# Altium schematic symbol library misc.SchLib: 5 symbols
Pins are listed as number, name and electrical type; pins without a type are passive.

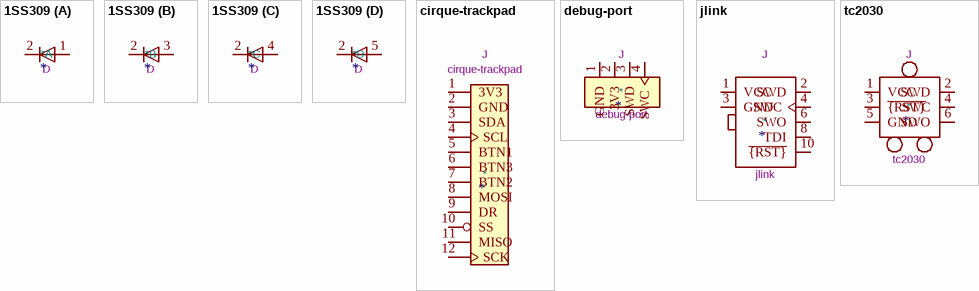
[diagram p0: symbols 1SS309 to tc2030]

## 1SS309
designator *  Reference: D
ki_fp_filters: *SOT-23-5*; Footprint: Package_TO_SOT_SMD:SOT-23-5
part A pins: 1 A, 2 K
part B pins: 2 K, 3 A
part C pins: 2 K, 4 A
part D pins: 2 K, 5 A

## cirque-trackpad
designator *  value cirque-trackpad  Reference: J
pins: 1 3V3, 2 GND, 3 SDA, 4 SCL, 5 BTN1, 6 BTN3, 7 BTN2, 8 MOSI, 9 DR, 10 SS, 11 MISO, 12 SCK

## debug-port
designator *  value debug-port  Reference: J
Footprint: misc:debug-port-single-side
pins: 1 GND, 2 3V3, 3 SWD, 4 SWC

## jlink
designator *  value jlink  Reference: J
Footprint: Connector_PinHeader_1.27mm:PinHeader_2x05_P1.27mm_Vertical_SMD
pins: 1 VCC, 2 SWD, 3 GND, 4 SWC, 5 GND hidden, 6 SWO, 8 TDI, 10 ~{{RST}}

## tc2030
designator *  value tc2030  Reference: J
ki_description: Symbol for Tag Connect 6 pin connectors; Footprint: Connector:Tag-Connect_TC2030-IDC-NL_2x03_P1.27mm_Vertical
pins: 1 VCC, 2 SWD, 3 ~{{RST}}, 4 SWC, 5 GND, 6 SWO